# Altium schematic symbol library 0461002.ER.SchLib: 1 symbol
Pins are listed as number, name and electrical type; pins without a type are passive.

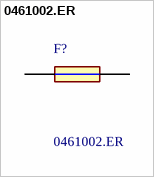
[diagram p0: symbol 0461002.ER]

## 0461002.ER
designator F?
Littelfuse 2A Non-Resettable Surface Mount Fuse, 600 V; Geometry.Height: 3.12mm; Mouser Part Number: 576-0461002.ER; Mouser Price/Stock: https://www.mouser.co.uk/ProductDetail/Littelfuse/0461002.ER?qs=bpnLQM2ZShwCPg%252BDpPZgdw%3D%3D; Manufacturer_Name: LITTELFUSE; Manufacturer_Part_Number: 0461002.ER; Datasheet Link: https://componentsearchengine.com/Datasheets/2/0461002.ER.pdf
footprint FUSC10131X312N
pins: 1, 2